# Altium footprint library state indicator.PcbLib: 8 footprints
Each footprint in its own frame and in the unit in brackets; x right, y up, seen from the top. Pads: shape width x height; smd on the part's side, far side on the other; paste and mask are expansions set on the pad; w line width, h text height; cw(c..) or ccw(c..) is an arc to the next point about the centre after c.
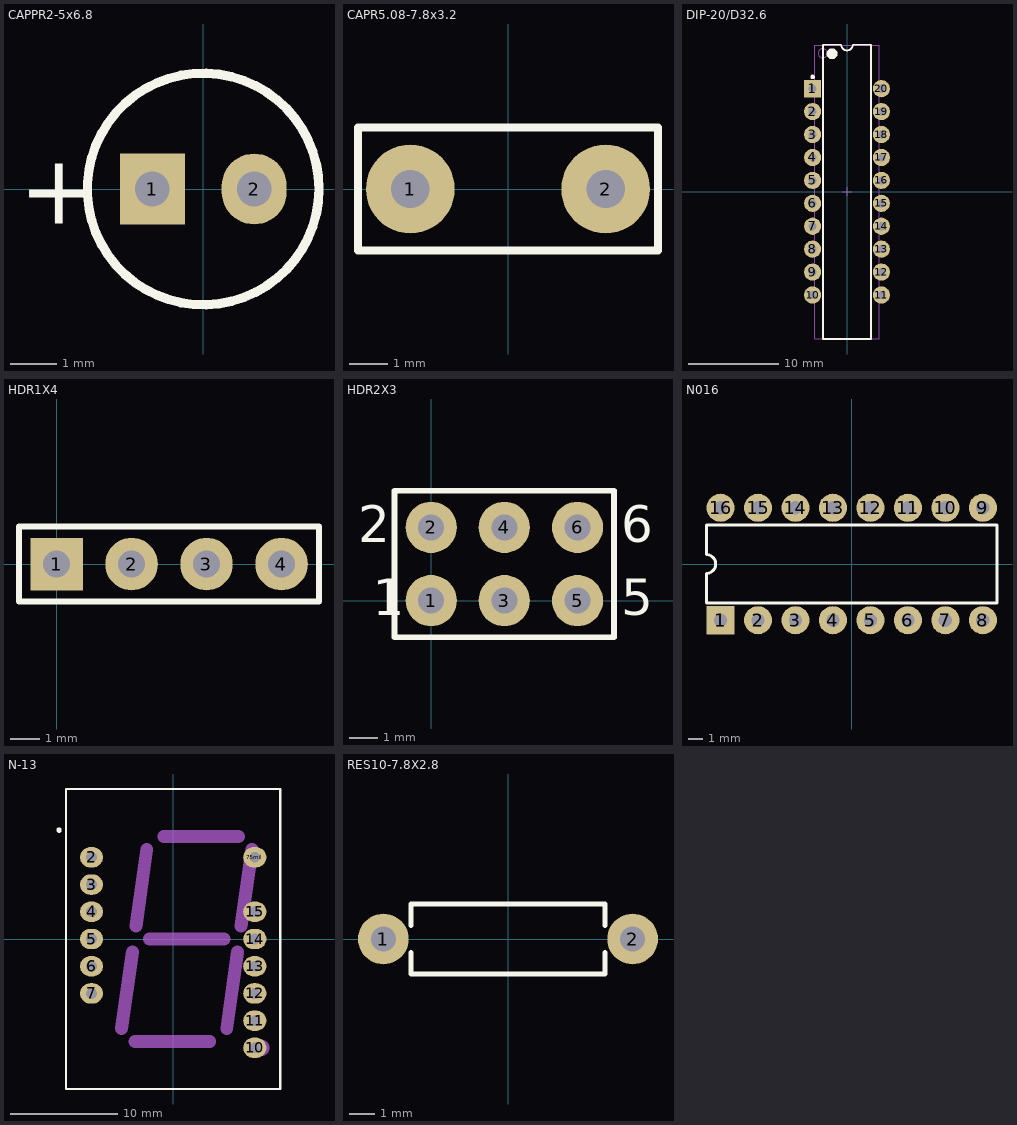
[diagram p0: the footprints below, top view; thin cyan lines are the x and y axes]

## CAPPR2-5x6.8 [mm]
pads (2):
  rect 1.402x1.529 hole 0.75: 1(-1.098,0)
  oval 1.402x1.529 hole 0.75: 2(1.102,0)
Top Overlay:
  circle w0.2: c0,0 r2.5
  text "+" at -3.975,-0.75 h1.5

## CAPR5.08-7.8x3.2 [mm]
pads (2):
  round 2.31 hole 1: 1(-2.54,0) 2(2.54,0)
Top Overlay:
  lines w0.2: -3.9,-1.6 3.9,-1.6 3.9,1.6 -3.9,1.6 -3.9,-1.6

## DIP-20/D32.6 [mm]
pads (20):
  rect 1.905x1.905 hole 0.9: 1(-3.81,11.43)
  round 1.905 hole 0.9: 2(-3.81,8.89) 3(-3.81,6.35) 4(-3.81,3.81) 5(-3.81,1.27) 6(-3.81,-1.27) 7(-3.81,-3.81) 8(-3.81,-6.35) 9(-3.81,-8.89) 10(-3.81,-11.43) 11(3.81,-11.43) 12(3.81,-8.89) 13(3.81,-6.35) 14(3.81,-3.81) 15(3.81,-1.27) 16(3.81,1.27) 17(3.81,3.81) 18(3.81,6.35) 19(3.81,8.89) 20(3.81,11.43)
Top Overlay:
  circle w0.25: c-3.81,12.73 r0.125
  circle w0.6: c-1.65,15.3 r0.3
  lines w0.2: -2.65,-16.3 -2.65,16.3 -0.635,16.3 ccw(c0,16.3) 0.635,16.3 2.65,16.3 2.65,-16.3 -2.65,-16.3
Mechanical 13:
  circle w0.1: c-2.7,15.35 r0.5
  lines w0.1: -3.6,-16.25 -3.6,16.25 3.6,16.25 3.6,-16.25 -3.6,-16.25
Mechanical 15:
  lines w0.1: -0.5,0 0.5,0 ; 0,-0.5 0,0.5
3D body: height 5.08, standoff 0, extent -3.6,-16.25 3.6,16.25

## HDR1X4 [mil]
pads (4):
  rect 70x70 hole 35.43: 1(0,0)
  round 70 hole 35.43: 2(100,0) 3(200,0) 4(300,0)
Top Overlay:
  lines w7.87: -50,-50 350,-50 350,50 -50,50 -50,-50

## HDR2X3 [mil]
pads (6):
  round 70 hole 35.43: 1(0,0) 2(0,100) 3(100,0) 4(100,100) 5(200,0) 6(200,100)
Top Overlay:
  lines w7.87: 58.33,-50 250,-50 ; 250,-50 250,150 -50,150 -50,-50 250,-50
  text "6" at 260,80 h50
  text "5" at 260,-20 h50
  text "2" at -100,80 h50
  text "1" at -80,-20 h50

## N016 [mm]
pads (16):
  rect 1.905x1.905 hole 0.9: 1(-8.89,-3.81)
  round 1.905 hole 0.9: 2(-6.35,-3.81) 3(-3.81,-3.81) 4(-1.27,-3.81) 5(1.27,-3.81) 6(3.81,-3.81) 7(6.35,-3.81) 8(8.89,-3.81) 9(8.89,3.81) 10(6.35,3.81) 11(3.81,3.81) 12(1.27,3.81) 13(-1.27,3.81) 14(-3.81,3.81) 15(-6.35,3.81) 16(-8.89,3.81)
Top Overlay:
  lines w0.2: -9.85,-2.65 9.85,-2.65 9.85,2.65 -9.85,2.65 -9.85,0.635 cw(c-9.85,0) -9.85,-0.635 -9.85,-2.65

## N-13 [mil]
pads (13):
  oval 85x75 hole 39.37: 2(-300,300) 3(-300,200) 4(-300,100) 5(-300,0) 6(-300,-100) 7(-300,-200) 10(300,-400) 11(300,-300) 12(300,-200) 13(300,-100) 14(300,0) 15(300,100) 75mil(300,300)
Top Overlay:
  circle w9.84: c-419.29,400 r4.92
  lines w7.87: -393.7,-551.18 -393.7,551.18 393.7,551.18 393.7,-551.18 -393.7,-551.18
Mechanical 1:
  circle w47.24: c324.8,-400 r5.91
  lines w47.24: -189.37,-329.13 -149.61,-47.24 ; -140.55,-376.38 134.65,-376.38 ; -136.61,47.24 -96.85,329.92 ; -87.4,0 187.4,0 ; -34.65,376.38 240.55,376.38 ; 196.85,-329.13 236.22,-47.24 ; 249.61,47.24 289.37,329.53

## RES10-7.8X2.8 [mil]
pads (2):
  round 80 hole 39.37: 1(-196.85,0) 2(196.85,0)
Top Overlay:
  lines w7.87: -153.54,-21.65 -153.54,-55.12 153.54,-55.12 153.54,-21.65 ; -153.54,21.65 -153.54,55.12 153.54,55.12 153.54,21.65